# Altium schematic symbol library ALSR0310K00FE12.SchLib: 1 symbol
Pins are listed as number, name and electrical type; pins without a type are passive.

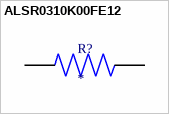
[diagram p0: symbol ALSR0310K00FE12]

## ALSR0310K00FE12
designator R?
MP: ALSR0310K00FE12; Package: None; Price: None; Value: *; Availability: Unavailable
footprint RESAD1869W81L1270D457
pins: 1, 2